# Altium schematic symbol library FDN358P.SchLib: 1 symbol
Pins are listed as number, name and electrical type; pins without a type are passive.

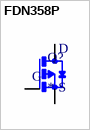
[diagram p0: symbol FDN358P]

## FDN358P
designator Q?
P-Channel 30V 1.5A (Ta) 500mW (Ta) Surface Mount SuperSOT-3; MF: ON Semiconductor; MP: FDN358P; SnapEDA_Link: https://www.snapeda.com/parts/FDN358P/Onsemi/view-part/?ref=snap; Package: TO-236-3 ON; Value: *; Check_prices: https://www.snapeda.com/parts/FDN358P/Onsemi/view-part/?ref=eda
footprint SSOT-3
pins: 1 G, 2 S, 3 D